# Altium schematic symbol library Relay Flyback Diode.SchLib: 1 symbol
Pins are listed as number, name and electrical type; pins without a type are passive.

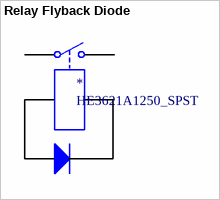
[diagram p0: symbol Relay Flyback Diode]

## Relay Flyback Diode
designator *, comment HE3621A1250_SPST
pins: 1, 2, 3, 4